# Altium footprint library MSP430PCB.PcbLib: 42 footprints (part 1 of 3)
Each footprint in its own frame and in the unit in brackets; x right, y up, seen from the top. Pads: shape width x height; smd on the part's side, far side on the other; paste and mask are expansions set on the pad; w line width, h text height; cw(c..) or ccw(c..) is an arc to the next point about the centre after c.
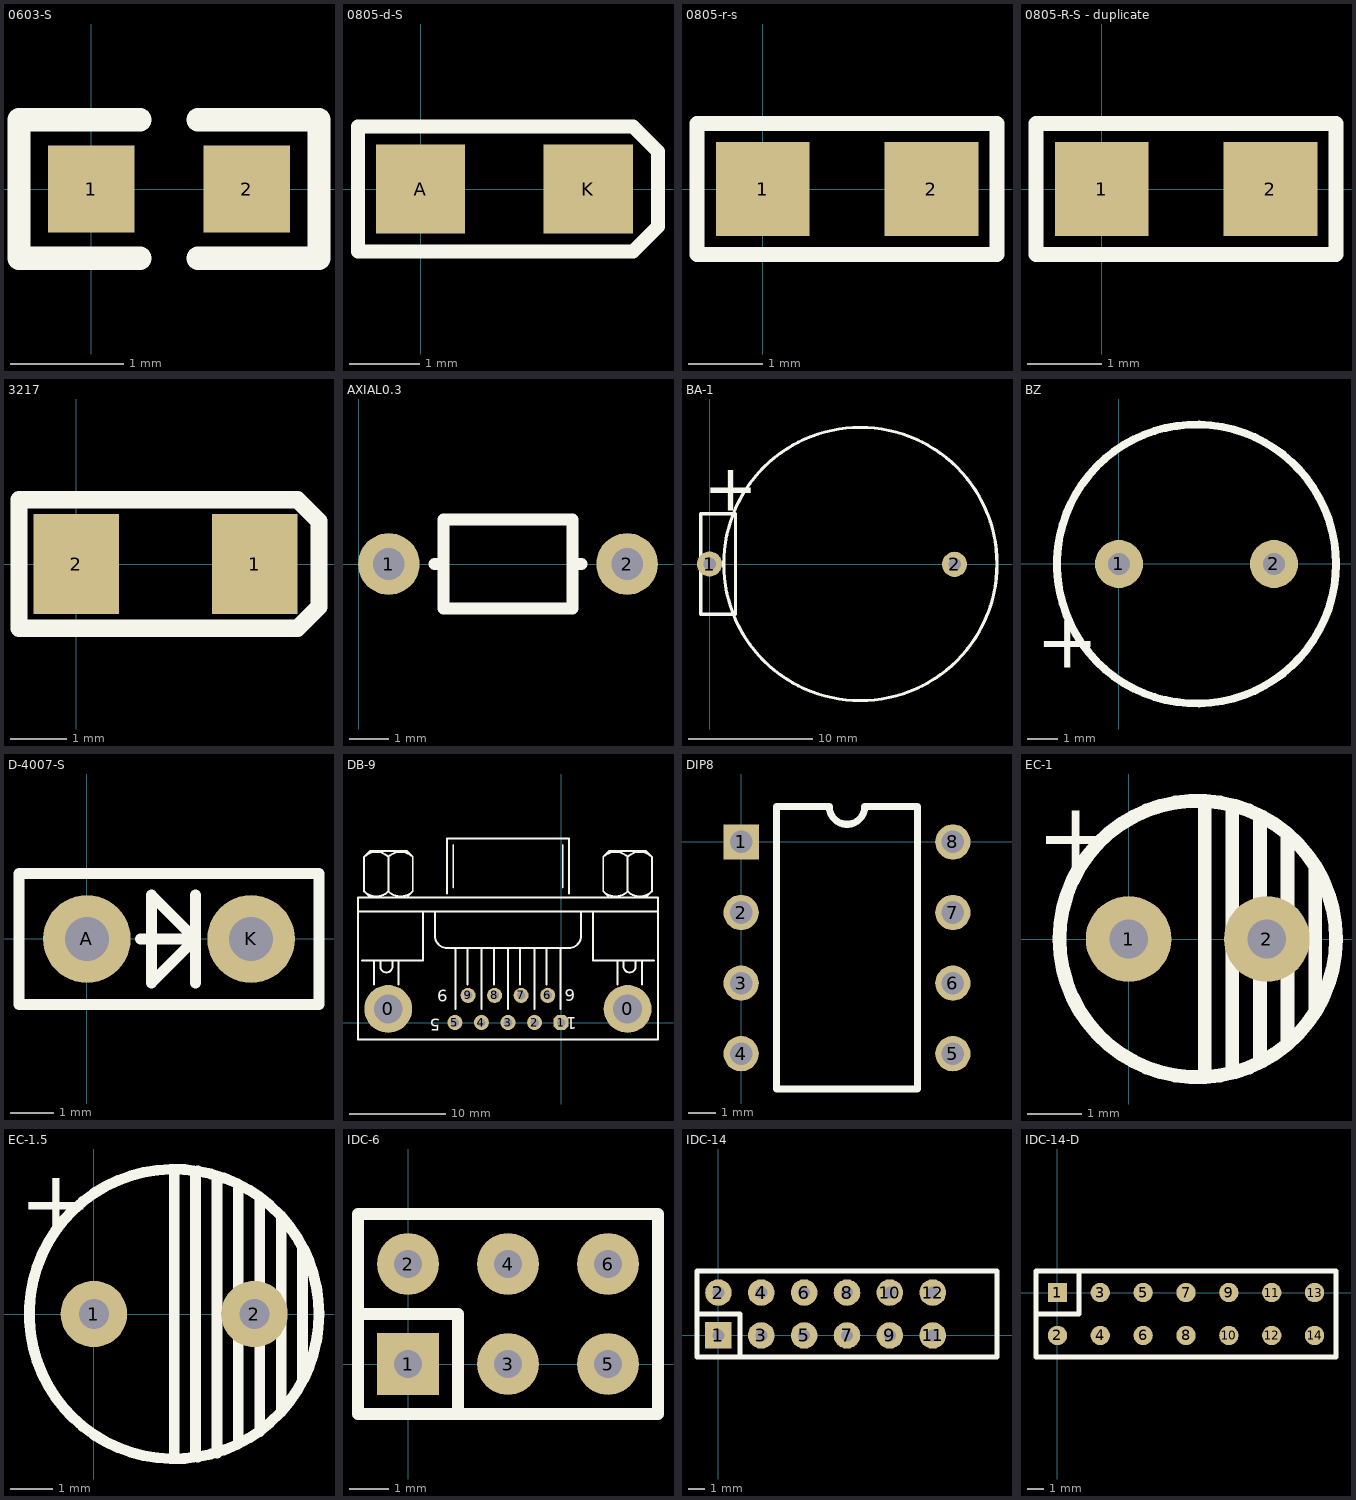
[diagram p0: the footprints below, top view; thin cyan lines are the x and y axes]

## 0603-S [mil]
pads (2):
  rect 30x30 smd: 1(0,0) 2(54,0)
Top Overlay:
  lines w8: 17,-24 -25,-24 -25,24 17,24 ; 37,-24 79,-24 79,24 37,24

## 0805-d-S [mil]
pads (2):
  rect 50x50 smd: A(0,0) K(94,0)
Top Overlay:
  lines w8: -35,-35 119,-35 133,-21 133,21 119,35 -35,35 -35,-35

## 0805-r-s [mil]
pads (2):
  rect 50x50 smd: 1(0,0) 2(90,0)
Top Overlay:
  lines w8: -35,-35 125,-35 125,35 -35,35 -35,-35

## 0805-R-S - duplicate [mil]
pads (2):
  rect 50x50 smd: 1(0,0) 2(90,0)
Top Overlay:
  lines w8: -35,-35 -35,35 125,35 125,-35 -35,-35

## 3217 [mil]
pads (2):
  rect 60x70 smd: 1(125,0) 2(0,0)
Top Overlay:
  lines w12: -40,-45 155,-45 170,-30 170,30 155,45 -40,45 -40,-45

## AXIAL0.3 [mil]
pads (2):
  round 62 hole 32: 1(30,0) 2(270,0)
Top Overlay:
  lines w12: 76,0 85,0 ; 215,0 224,0 ; 85,-45 85,45 215,45 215,-45 85,-45

## BA-1 [mil]
pads (2):
  round 80 hole 40: 1(0,0) 2(780,-1)
Top Overlay:
  circle w10: c480,0 r435
  lines w10: -28,-160 -28,160 82,160 82,-160 -28,-160
  text "+" at -19,170 h150

## BZ [mil]
pads (2):
  round 62 hole 28: 1(0,0) 2(200,0)
Top Overlay:
  circle w10: c100,0 r180
  text "+" at -107.05,-133.57 h70

## D-4007-S [mil]
pads (2):
  round 80 hole 40: A(0,0) K(150,0)
Top Overlay:
  lines w10: 49,0 99,0 ; 99,-40 99,40 ; 99,0 59,40 59,-40 99,0 ; -62,-60 212,-60 212,60 -62,60 -62,-60

## DB-9 [mil]
pads (11):
  round 196.67 hole 118.33: 0(-710.83,55.83) 0(273.33,55.83)
  oct 62x62 hole 35: 1(0,0)
  round 62 hole 35: 2(-109.17,0) 3(-218.33,0) 4(-327.5,0) 5(-436.67,0) 6(-55,111.67) 7(-164.17,111.67) 8(-273.33,111.67) 9(-382.5,111.67)
Top Overlay:
  lines w8: -835,455.83 398.33,455.83 ; -818.33,255.83 -568.33,255.83 -568.33,455.83 ; -810.09,539.08 ccw(c-760,589.17) -709.91,539.08 ; -810.09,680.92 cw(c-760,630.83) -709.91,680.92 ; -785,514.17 -810,539.17 -810,680.83 -785,705.83 -635,705.83 -610,680.83 -610,539.17 -635,514.17 ; -768.33,155.83 -768.33,255.83 ; -743.33,255.83 -743.33,230.83 ccw(c-718.33,230.83) -693.33,230.83 -693.33,255.83 ; -710.09,539.08 ccw(c-660,589.17) -609.91,539.08 ; -710.09,680.92 cw(c-660,630.83) -609.91,680.92 ; -710,539.17 -710,680.83 ; -668.33,155.83 -668.33,255.83 ; -518.33,455.83 -518.33,355.83 ccw(c-468.33,355.83) -468.33,305.83 31.67,305.83 ccw(c31.67,355.83) 81.67,355.83 81.67,455.83 ; -468.33,530.83 -468.33,755.83 31.67,755.83 31.67,530.83 ; -443.33,555.83 -443.33,730.83 ; -435,55.83 -435,305.83 ; -385,155.83 -385,305.83 ; -326.67,55.83 -326.67,305.83 ; -276.67,155.83 -276.67,305.83 ; -218.33,55.83 -218.33,305.83 ; -168.33,155.83 -168.33,305.83 ; -110,55.83 -110,305.83 ; -60,155.83 -60,305.83 ; -1.67,55.83 -1.67,305.83 ; 6.67,555.83 6.67,730.83 ; 131.67,455.83 131.67,255.83 381.67,255.83 ; 173.25,539.08 ccw(c223.33,589.17) 273.42,539.08 ; 173.25,680.92 cw(c223.33,630.83) 273.42,680.92 ; 198.33,514.17 173.33,539.17 173.33,680.83 198.33,705.83 348.33,705.83 373.33,680.83 373.33,539.17 348.33,514.17 ; 231.67,155.83 231.67,255.83 ; 256.67,255.83 256.67,230.83 ccw(c281.67,230.83) 306.67,230.83 306.67,255.83 ; 273.25,539.08 ccw(c323.33,589.17) 373.42,539.08 ; 273.25,680.92 cw(c323.33,630.83) 373.42,680.92 ; 273.33,539.17 273.33,680.83 ; 331.67,155.83 331.67,255.83 ; -835,-69.17 -835,514.17 398.33,514.17 398.33,-69.17 -835,-69.17
  text "9" at -465,134 h50
  text "5" at -496,16 h50
  text "1" at 64,22 h50
  text "6" at 58,136 h50

## DIP8 [mil]
pads (8):
  rect 50x50 hole 32: 1(0,0)
  round 50 hole 32: 2(0,-100) 3(0,-200) 4(0,-300) 5(300,-300) 6(300,-200) 7(300,-100) 8(300,0)
Top Overlay:
  lines w10: 50,-350 50,50 125,50 ccw(c150,50) 175,50 250,50 250,-350 50,-350

## EC-1 [mil]
pads (2):
  round 62 hole 28: 1(0,0) 2(100,0)
Top Overlay:
  circle w10: c50,0 r100
  lines w10: 55,-95 55,95 ; 75,-95 75,95 ; 95,-85 95,85 ; 115,-75 115,75 ; 135,-50 135,50
  text "+" at -67,50 h50

## EC-1.5 [mil]
pads (2):
  round 62 hole 28: 1(0,0) 2(150,0)
Top Overlay:
  circle w10: c75,0 r135.37
  lines w10: 75,-135 75,135 ; 95,-130 95,130 ; 115,-130 115,125 ; 135,-120 135,120 ; 155,-110 155,105 ; 175,-90 175,90 ; 195,-60 195,60
  text "+" at -70,75 h60

## IDC-6 [mil]
pads (6):
  rect 62x62 hole 28: 1(0,0)
  round 62 hole 28: 2(0,100) 3(100,0) 4(100,100) 5(200,0) 6(200,100)
Top Overlay:
  lines w12: -50,50 50,50 50,-50 ; -50,-50 -50,150 250,150 250,-50 -50,-50

## IDC-14 [mil]
pads (12):
  rect 62x62 hole 28: 1(0,0)
  round 62 hole 28: 2(0,100) 3(100,0) 4(100,100) 5(200,0) 6(200,100) 7(300,0) 8(300,100) 9(400,0) 10(400,100) 11(500,0) 12(500,100)
Top Overlay:
  lines w12: -50,50 50,50 50,-50 ; -50,-50 -50,150 650,150 650,-50 -50,-50

## IDC-14-D [mil]
pads (14):
  rect 45x45 smd: 1(0,0)
  round 45 smd: 2(0,-100) 3(100,0) 4(100,-100) 5(200,0) 6(200,-100) 7(300,0) 8(300,-100) 9(400,0) 10(400,-100) 11(500,0) 12(500,-100) 13(600,0) 14(600,-100)
Top Overlay:
  lines w12: -50,-50 50,-50 50,50 ; -50,-150 -50,50 650,50 650,-150 -50,-150